# Altium footprint library SM_WDFN-8.PcbLib: 1 footprints
Each footprint in its own frame and in the unit in brackets; x right, y up, seen from the top. Pads: shape width x height; smd on the part's side, far side on the other; paste and mask are expansions set on the pad; w line width, h text height; cw(c..) or ccw(c..) is an arc to the next point about the centre after c.
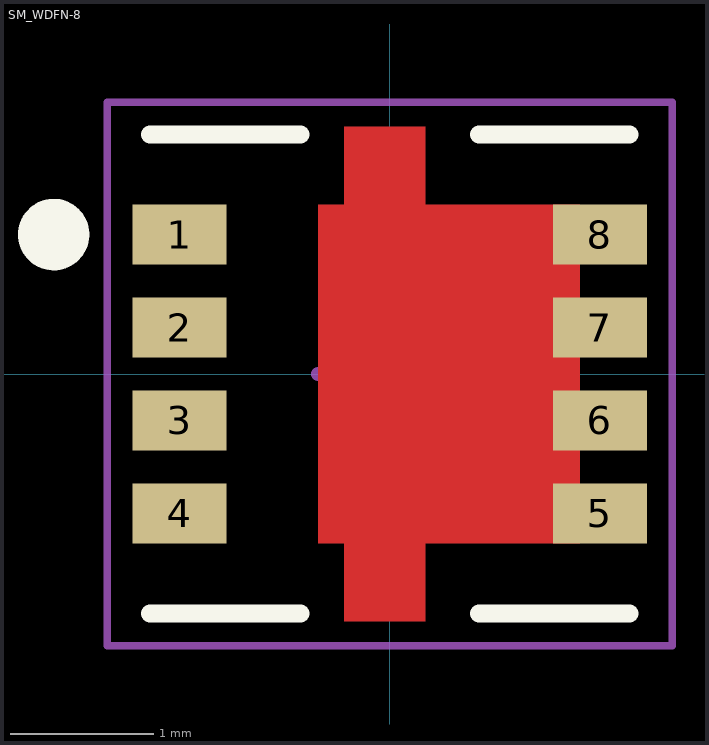
[diagram p0: the footprint, top view; thin cyan lines are the x and y axes]

## SM_WDFN-8 [mm] "3.3mm x 3.3mm"
pads (8):
  rect 0.66x0.42 smd mask+0.076: 1(-1.47,0.975) 2(-1.47,0.325) 3(-1.47,-0.325) 4(-1.47,-0.975) 5(1.47,-0.975) 6(1.47,-0.325) 7(1.47,0.325) 8(1.47,0.975)
Top Layer:
  region: 1.33,-1.185 1.33,1.185 -0.5,1.185 -0.5,-1.185
  region: 0.25,-1.73 0.25,1.73 -0.32,1.73 -0.32,-1.73
Top Overlay:
  circle w0.25: c-2.35,0.975 r0.125
  lines w0.127: -1.675,-1.675 -0.625,-1.675 ; -1.675,1.675 -0.625,1.675 ; 0.625,-1.675 1.675,-1.675 ; 0.625,1.675 1.675,1.675
Mechanical 15:
  lines w0.05: -1.975,-1.9 -1.975,1.9 1.975,1.9 1.975,-1.9 -1.975,-1.9
  lines w0.1: -0.5,0 0.5,0 ; 0,-0.5 0,0.5
3D body: height 0.8, standoff 0, extent -1.675,-1.675 1.675,1.675